# EAGLE library part ECLO_SIM800H_MODULE (library eclo_sim800h_module)
Eclo Solutions IoT module based in SIMCOM SIM800H
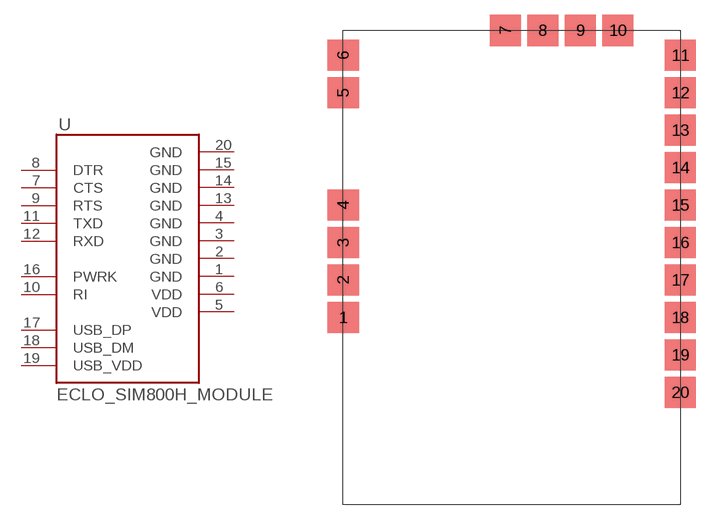
[diagram p0: symbol with the pads of ECLO_SIM800H_MODULE; footprint ECLO_SIM800H_MODULE]

Designator prefix -

## ECLO_SIM800H_MODULE  [ECLO_SIM800H_MODULE]
1  GND  pwr
2  GND  pwr
3  GND  pwr
4  GND  pwr
5  VDD  pwr
6  VDD  pwr
7  CTS
8  DTR
9  RTS
10  RI
11  TXD
12  RXD
13  GND  pwr
14  GND  pwr
15  GND  pwr
16  PWRK
17  USB_DP
18  USB_DM
19  USB_VDD  pwr
20  GND  pwr

## Footprint ECLO_SIM800H_MODULE (pad centres in mm)
smd 3.175 x 3.175: 1 -17.145,-5.08; 2 -17.145,-1.27; 3 -17.145,2.54; 4 -17.145,6.35; 5 -17.145,17.78; 6 -17.145,21.59; 7 -0.635,24.13; 8 3.175,24.13; 9 6.985,24.13; 10 10.795,24.13; 11 17.145,21.59; 12 17.145,17.78; 13 17.145,13.97; 14 17.145,10.16; 15 17.145,6.35; 16 17.145,2.54; 17 17.145,-1.27; 18 17.145,-5.08; 19 17.145,-8.89; 20 17.145,-12.7